# Altium footprint library Sprite.PCBLIB: 71 footprints (part 3 of 5)
Each footprint in its own frame and in the unit in brackets; x right, y up, seen from the top. Pads: shape width x height; smd on the part's side, far side on the other; paste and mask are expansions set on the pad; w line width, h text height; cw(c..) or ccw(c..) is an arc to the next point about the centre after c.
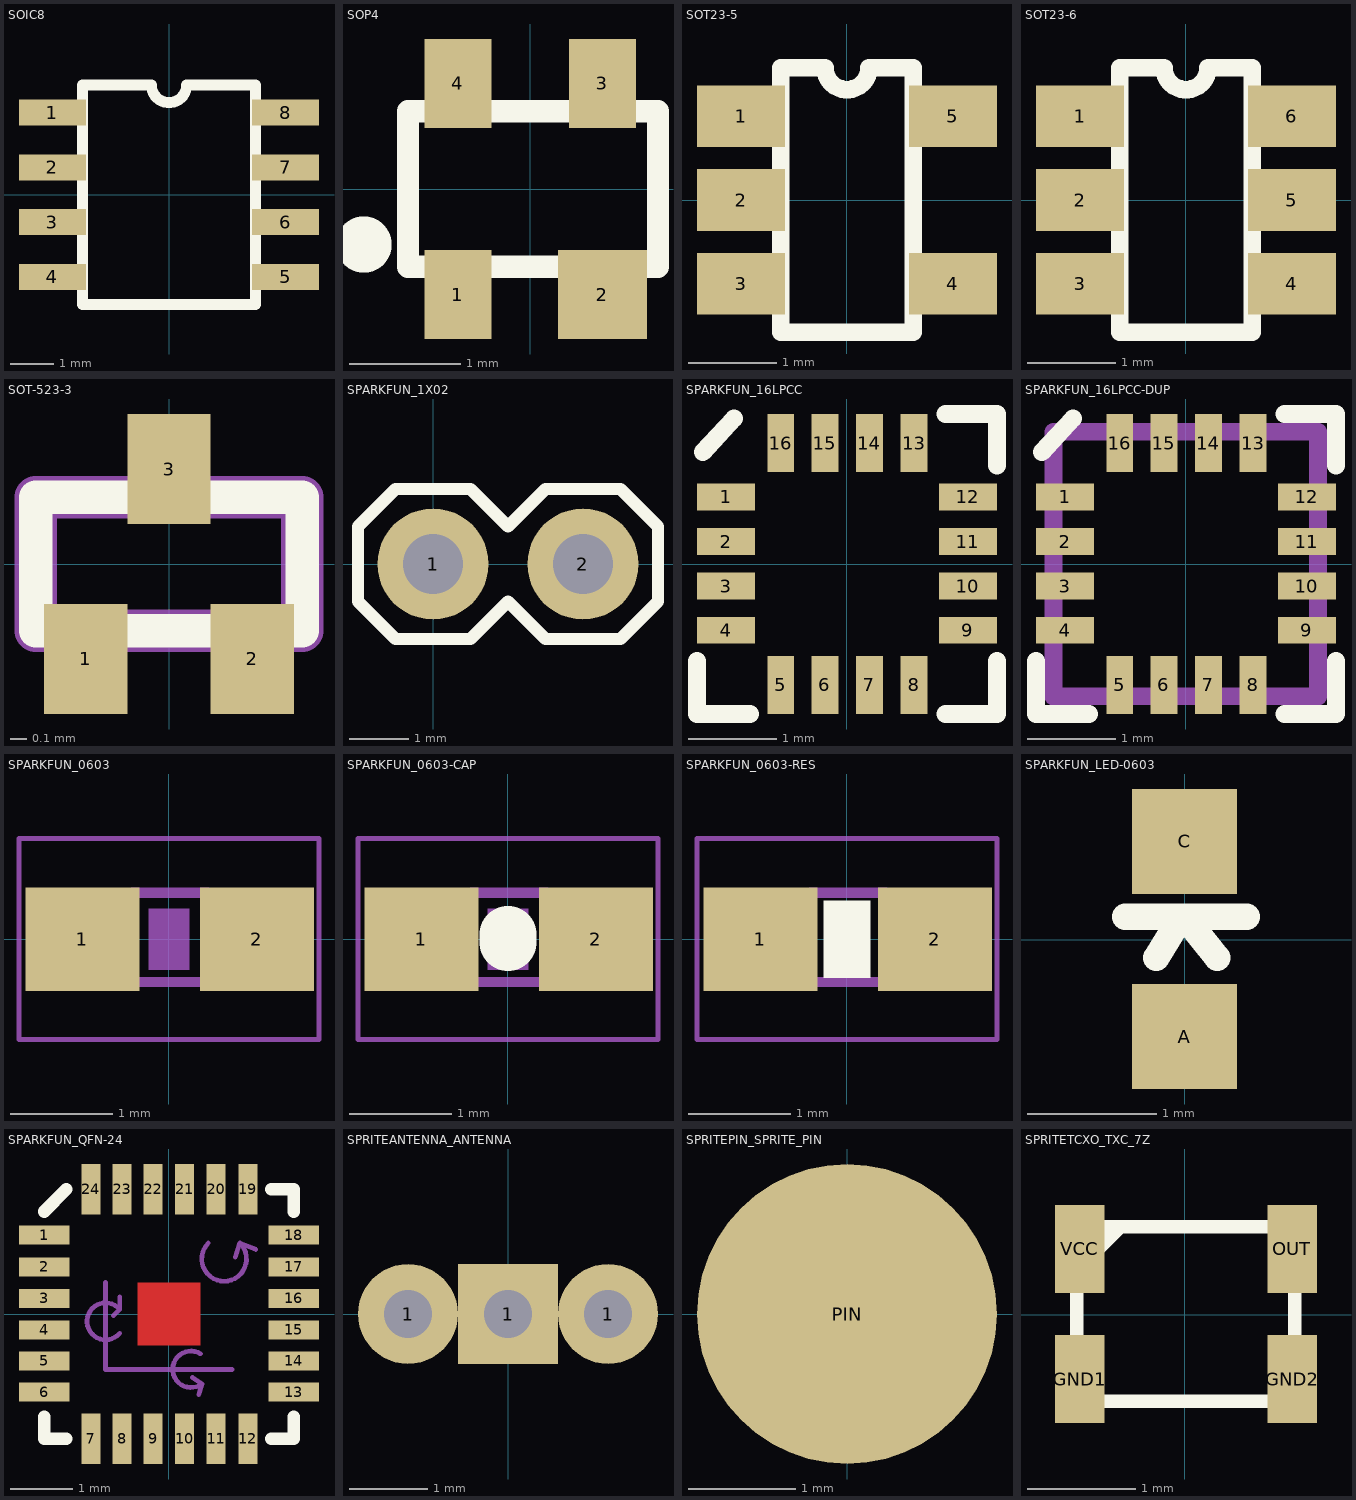
[diagram p2: the footprints below, top view; thin cyan lines are the x and y axes]

## SOIC8 [mm]
pads (8):
  rect 1.55x0.6 smd: 1(-2.7,1.905) 2(-2.7,0.635) 3(-2.7,-0.635) 4(-2.7,-1.905) 5(2.7,-1.905) 6(2.7,-0.635) 7(2.7,0.635) 8(2.7,1.905)
Top Overlay:
  lines w0.254: -0.432,2.54 -2,2.54 -2,-2.54 2,-2.54 2,2.54 ; -0.406,2.54 ccw(c0,2.54) 0.406,2.54 1.981,2.54
3D body: height 2, standoff 1.75, extent -2.032,-2.54 2.032,2.54

## SOP4 [mm] "SOP4"
height 1
pads (4):
  rect 0.6x0.8 smd: 1(-0.65,-0.95) 3(0.65,0.95) 4(-0.65,0.95)
  rect 0.8x0.8 smd: 2(0.65,-0.95)
Top Overlay:
  circle w0.406: c-1.5,-0.5 r0.05
  lines w0.2: -1.1,-0.7 1.15,-0.7 1.15,0.7 -1.1,0.7 -1.1,-0.7
3D body: height 1, standoff 0, extent -1.1,-0.7 1.15,0.7

## SOT23-5 [mm]
pads (5):
  rect 1x0.7 smd: 1(-1.2,0.95) 2(-1.2,0) 3(-1.2,-0.95) 4(1.2,-0.95) 5(1.2,0.95)
Top Overlay:
  lines w0.2: -0.75,-1.5 0.75,-1.5 0.75,1.5 0.25,1.5 cw(c0,1.5) -0.25,1.5 -0.75,1.5 -0.75,-1.5
3D body: height 1, standoff 0, extent -0.75,-1.5 0.75,1.475

## SOT23-6 [mm]
pads (6):
  rect 1x0.7 smd: 1(-1.2,0.95) 2(-1.2,0) 3(-1.2,-0.95) 4(1.2,-0.95) 5(1.2,0) 6(1.2,0.95)
Top Overlay:
  lines w0.2: -0.75,-1.5 0.75,-1.5 0.75,1.5 0.25,1.5 cw(c0,1.5) -0.25,1.5 -0.75,1.5 -0.75,-1.5
3D body: height 1, standoff 0, extent -0.75,-1.5 0.75,1.475

## SOT-523-3 [mm] "SOT-523-3 1.7x0.98mm body"
height 0.6
pads (3):
  rect 0.5x0.66 smd: 1(-0.5,-0.57) 2(0.5,-0.57) 3(0,0.57)
Top Overlay:
  lines w0.2: -0.8,-0.4 -0.8,0.4 0.8,0.4 0.8,-0.4 -0.8,-0.4
Mechanical 13:
  lines w0.254: 0,0.4 0.8,0.4 ; 0.8,0.4 0.8,-0.4 -0.8,-0.4 -0.8,0.4 0.8,0.4
3D body: height 0.6, standoff 0, extent -0.8,-0.4 0.8,0.4

## SPARKFUN_1X02 [mil]
pads (2):
  round 74 hole 40: 1(0,0) 2(100,0)
Top Overlay:
  lines w8: -50,-25 -50,25 -25,50 25,50 50,25 75,50 125,50 150,25 150,-25 125,-50 75,-50 50,-25 25,-50 -25,-50 -50,-25
Mechanical 2:
  text ">NAME" at -53,72 h77.5
Mechanical 4:
  text ">VALUE" at -50,-125 h77.5
Mechanical 16:
  rectangle: 90,-10 110,10
  rectangle: -10,-10 10,10

## SPARKFUN_16LPCC [mil]
pads (16):
  rect 26x12 smd: 1(-53.94,30) 2(-53.94,10) 3(-53.94,-9.84) 4(-53.94,-29.53) 9(54,-29.53) 10(54,-9.84) 11(54,10) 12(54,30)
  rect 12x26 smd: 5(-29.53,-53.94) 6(-9.84,-53.94) 7(10,-53.94) 8(30,-53.94) 13(30,54) 14(10,54) 15(-9.84,54) 16(-29.53,54)
Top Overlay:
  lines w8: -66.93,-43.31 -66.93,-66.93 -43.31,-66.93 ; -64.37,50 -50.39,65 ; 44,-66.93 67,-66.93 67,-43.31 ; 44,67 67,67 67,44
Mechanical 2:
Mechanical 4:

## SPARKFUN_16LPCC-DUP [mil]
pads (16):
  rect 26x12 smd: 1(-53.94,30) 2(-53.94,10) 3(-53.94,-9.84) 4(-53.94,-29.53) 9(54,-29.53) 10(54,-9.84) 11(54,10) 12(54,30)
  rect 12x26 smd: 5(-29.53,-53.94) 6(-9.84,-53.94) 7(10,-53.94) 8(30,-53.94) 13(30,54) 14(10,54) 15(-9.84,54) 16(-29.53,54)
Top Overlay:
  lines w8: -66.93,-43.31 -66.93,-66.93 -43.31,-66.93 ; -64.37,50 -50.39,65 ; 44,-66.93 67,-66.93 67,-43.31 ; 44,67 67,67 67,44
Mechanical 4:
Mechanical 13:
  lines w7.87: -59.06,-59.06 59.06,-59.06 ; -59.06,59.06 59.06,59.06
  lines w8: -59.06,-59.06 -59.06,59.06 ; 59.06,-59.06 59.06,59.06
3D body: height 35.43, standoff 0, extent -59.06,-59.06 59.06,59.06

## SPARKFUN_0603 [mil]
pads (2):
  rect 44x40 smd: 1(-33.46,0) 2(34,0)
Mechanical 2:
  text ">NAME" at -35,30 h13.6
Mechanical 4:
  text ">VALUE" at -40,-45 h13.6
Mechanical 6:
  rectangle: -7.87,-11.81 8,12
Mechanical 16:
  rectangle: 13,-18.5 33,19
  rectangle: -33,-18.5 -13.31,19
  lines w4: -14.02,-16.5 15,-16.5 ; -14.02,18 15,18
Mechanical 27:
  lines w2: -57.99,-38.7 -57.99,39 58,39 58,-38.7 -57.99,-38.7

## SPARKFUN_0603-CAP [mil]
pads (2):
  rect 44x40 smd: 1(-33.46,0) 2(34,0)
Top Overlay:
  lines w22: 0,-1.2 0,2
Mechanical 2:
  text ">NAME" at -35,30 h13.6
Mechanical 4:
  text ">VALUE" at -40,-45 h13.6
Mechanical 6:
  rectangle: -7.87,-11.81 8,12
Mechanical 16:
  rectangle: 13,-18.5 33,19
  rectangle: -33,-18.5 -13.31,19
  lines w4: -14.02,-16.5 15,-16.5 ; -14.02,18 15,18
Mechanical 27:
  lines w2: -57.99,-38.7 -57.99,39 58,39 58,-38.7 -57.99,-38.7

## SPARKFUN_0603-RES [mil]
pads (2):
  rect 44x40 smd: 1(-33.46,0) 2(34,0)
Top Overlay:
  rectangle: -9,-15 9,15
Mechanical 2:
  text ">NAME" at -35,30 h13.6
Mechanical 4:
  text ">VALUE" at -40,-45 h13.6
Mechanical 6:
  rectangle: -7.87,-11.81 8,12
Mechanical 16:
  rectangle: 13,-18.5 33,19
  rectangle: -33,-18.5 -13.31,19
  lines w4: -14.02,-16.5 15,-16.5 ; -14.02,18 15,18
Mechanical 27:
  lines w2: -57.99,-38.7 -57.99,39 58,39 58,-38.7 -57.99,-38.7

## SPARKFUN_LED-0603 [mil]
pads (2):
  rect 32x32 smd: A(0,-29.53) C(0,30)
Top Overlay:
  lines w8: -18.11,7 0,7 ; -8.6,-5.51 -1,7 ; 10,-5.51 0,7 ; 19,7 0,7
Mechanical 2:
  text ">NAME" at -27.5,-35 h24.8
Mechanical 4:
  text ">VALUE" at 43,-40 h24.8

## SPARKFUN_QFN-24 [mil]
pads (24):
  rect 32x12 smd: 1(-78.74,50) 2(-78.74,30) 3(-78.74,10) 4(-78.74,-9.84) 5(-78.74,-29.53) 6(-78.74,-49.21) 13(79,-49.21) 14(79,-29.53) 15(79,-9.84) 16(79,10) 17(79,30) 18(79,50)
  rect 12x32 smd: 7(-49.21,-78.74) 8(-29.53,-78.74) 9(-9.84,-78.74) 10(10,-78.74) 11(30,-78.74) 12(50,-78.74) 19(50,79) 20(30,79) 21(10,79) 22(-9.84,79) 23(-29.53,79) 24(-49.21,79)
Top Layer:
  rectangle: -19.68,-19.68 20,20
Top Overlay:
  lines w8: -78.74,-64.96 -78.74,-78.74 -64.96,-78.74 ; -78.74,65 -64.96,79 ; 65,-78.74 79,-78.74 79,-64.96 ; 65,79 79,79 79,65
Top Solder:
  rectangle: -19.68,-19.68 20,20
Mechanical 2:
Mechanical 4:
Mechanical 16:
  lines w3: -40,20 -40,-35 40,-35 ; -35,-1 -31,3 ; -31,-12 cw(c-40,-4.5) -31,3 ; -31,11 -31,3 ; 15,-40 21,-44 ; 19,-51 21,-44 ; 20,-25 ccw(c14,-34.84) 21,-44 ; 25,45 ccw(c35,35) 45,45 ; 42,36 45,45 ; 55,41 45,45
  text "Z" at 0,34 h24.8
  text "Y" at -48,26 h24.8
  text "X" at 44,-47 h24.8

## SPRITEANTENNA_ANTENNA [mil]
pads (3):
  round 50 hole 24: 1(-50,0) 1(50,0)
  rect 50x50 hole 24: 1(0,0)

## SPRITEPIN_SPRITE_PIN [mil]
pads (1):
  rrect100% 110x110 smd: PIN(0,0)

## SPRITETCXO_TXC_7Z [mil]
pads (4):
  rect 18x32 smd: GND1(-38.19,-23.43) GND2(39,-23.43) OUT(39,24) VCC(-38.19,24)
Top Overlay:
  lines w5: -39.37,16 -39.37,-31.5 40,-31.5 40,32 -23.62,32 ; -39.37,16 -39.37,32 -23.62,32 ; -39.37,16 -23.62,32